# Altium footprint library DRClib.PcbLib: 41 footprints (part 3 of 3)
Each footprint in its own frame and in the unit in brackets; x right, y up, seen from the top. Pads: shape width x height; smd on the part's side, far side on the other; paste and mask are expansions set on the pad; w line width, h text height; cw(c..) or ccw(c..) is an arc to the next point about the centre after c.
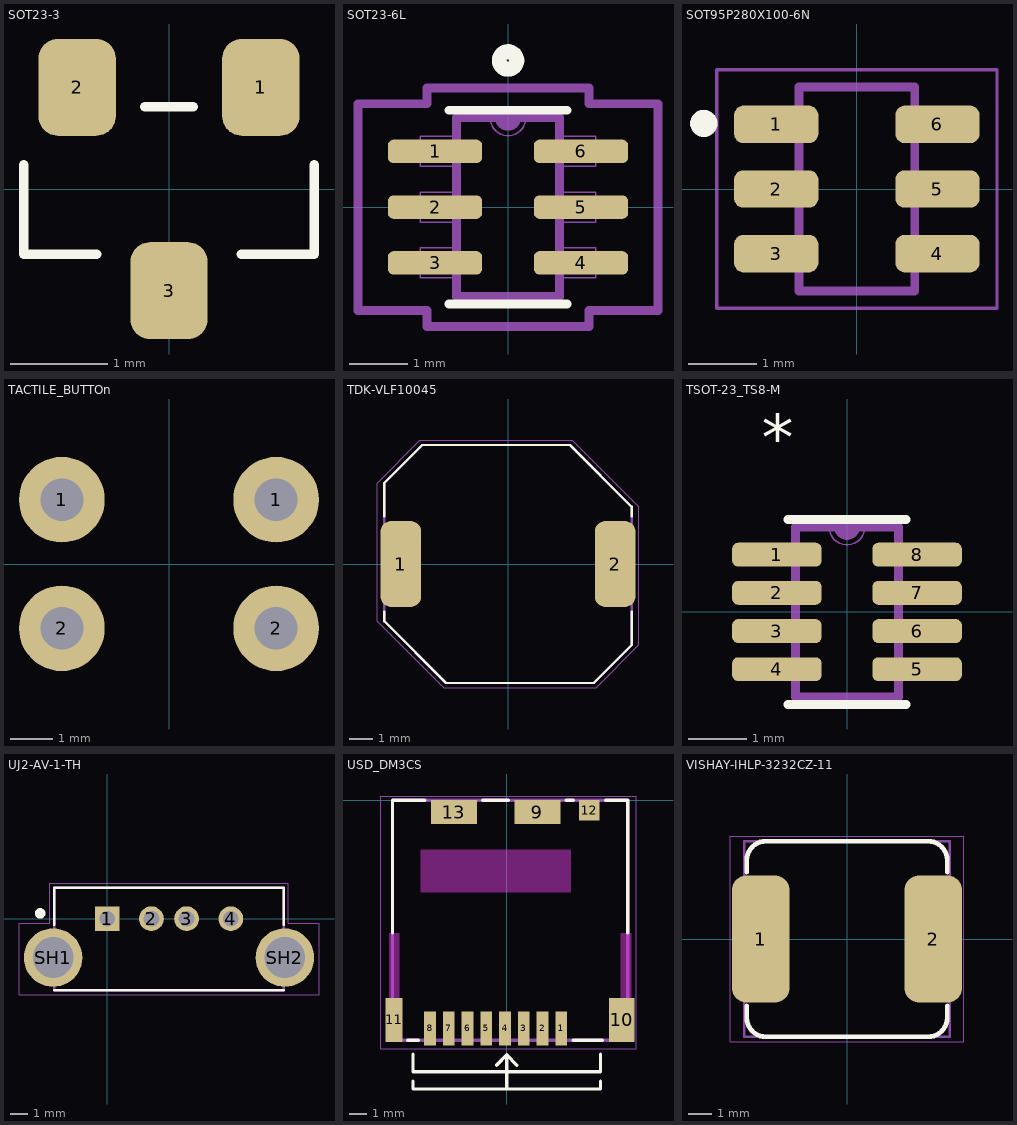
[diagram p2: the footprints below, top view; thin cyan lines are the x and y axes]

## SOT23-3 [mm] "SOT23-3"
height 1.1
pads (3):
  rrect50% 0.8x1 smd: 1(0.95,1.05) 2(-0.95,1.05) 3(0,-1.05)
Top Overlay:
  lines w0.1: -1.5,0.25 -1.5,-0.675 -0.75,-0.675 ; -0.25,0.85 0.25,0.85 ; 0.75,-0.675 1.5,-0.675 1.5,0.25
3D body "SOT23-3.step": height 1.3, standoff 0, extent -1.45,-1.4 1.45,1.4

## SOT23-6L [mm]
pads (6):
  rrect50% 1.61x0.4 smd: 1(-1.244,0.95) 2(-1.244,0) 3(-1.244,-0.95) 4(1.244,-0.95) 5(1.244,0) 6(1.244,0.95)
Top Overlay:
  circle w0.254: c0,2.5 r0.15
  lines w0.152: -1.003,-1.651 1.003,-1.651 ; -1.003,1.651 1.003,1.651
Mechanical 1:
  lines w0.025: -0.305,1.524 ccw(c0,1.524) 0.305,1.524 ; -1.499,-1.204 -1.499,-0.696 -0.876,-0.696 -0.876,-1.204 -1.499,-1.204 ; -1.499,-0.254 -1.499,0.254 -0.876,0.254 -0.876,-0.254 -1.499,-0.254 ; -1.499,0.696 -1.499,1.204 -0.876,1.204 -0.876,0.696 -1.499,0.696 ; -0.876,-1.524 0.876,-1.524 0.876,1.524 -0.876,1.524 -0.876,-1.524 ; 0.876,-1.204 0.876,-0.696 1.499,-0.696 1.499,-1.204 0.876,-1.204 ; 0.876,-0.254 0.876,0.254 1.499,0.254 1.499,-0.254 0.876,-0.254 ; 0.876,0.696 0.876,1.204 1.499,1.204 1.499,0.696 0.876,0.696
  text "*" at -0.495,1.448 h0.79
Mechanical 16:
  lines w0.152: -0.146,1.524 ccw(c0,1.524) 0.146,1.524 ; -2.557,-1.762 -2.557,1.762 -1.384,1.762 -1.384,2.032 1.384,2.032 1.384,1.762 2.557,1.762 2.557,-1.762 1.384,-1.762 1.384,-2.032 -1.384,-2.032 -1.384,-1.762 -2.557,-1.762 ; -0.876,-1.524 -0.876,1.524 0.876,1.524 0.876,-1.524 -0.876,-1.524

## SOT95P280X100-6N [mm]
pads (6):
  rrect50% 1.24x0.55 smd: 1(-1.185,0.95) 2(-1.185,0) 3(-1.185,-0.95) 4(1.185,-0.95) 5(1.185,0) 6(1.185,0.95)
Top Overlay:
  circle w0.2: c-2.249,0.964 r0.1
Mechanical 4:
  lines w0.127: -0.85,-1.5 -0.85,1.5 ; -0.85,-1.5 0.85,-1.5 ; -0.85,-1.5 -0.85,1.5 ; -0.85,-1.5 0.85,-1.5 ; -0.85,1.5 0.85,1.5 ; -0.85,1.5 0.85,1.5 ; 0.85,-1.5 0.85,1.5 ; 0.85,-1.5 0.85,1.5
Mechanical 16:
  lines w0.05: -2.06,-1.75 2.06,-1.75 2.06,1.75 -2.06,1.75 -2.06,-1.75
3D body: height 1, standoff 0, extent -0.85,-1.5 0.85,1.5

## TACTILE_BUTTOn [mm]
pads (4):
  round 2 hole 1: 1(-2.5,1.5) 1(2.5,1.5) 2(-2.5,-1.5) 2(2.5,-1.5)
3D body "Tactile.stp": height 3.5, standoff 0, extent -2.25,-2.25 2.25,2.25

## TDK-VLF10045 [mm]
pads (2):
  rrect50% 1.7x3.6 smd: 1(-4.5,0) 2(4.5,0)
Top Overlay:
  lines w0.1: -5.2,-2 -5.2,-2.4 -2.6,-5 0,-5 3.6,-5 5.2,-3.4 5.2,-2 ; -5.2,2 -5.2,3.4 -3.6,5 0,5 2.6,5 5.2,2.4 5.2,2
Mechanical 13:
  region: 5.2,1.5 3.9,1.5 3.9,-1.5 5.2,-1.5
  rectangle: -5.2,-1.5 -3.9,1.5
  lines w0.1: -5.2,-2.4 -5.2,3.4 -3.6,5 2.6,5 5.2,2.4 5.2,-3.4 3.6,-5 -2.6,-5 -5.2,-2.4
Mechanical 15:
  lines w0.05: -5.5,-2.4 -5.5,3.4 -3.7,5.2 2.7,5.2 5.5,2.4 5.5,-3.4 3.7,-5.2 -2.7,-5.2 -5.5,-2.4
  text ".Designator" at -4.3,-0.4 h2
3D body "User Library-SMD Inductor TDK VLF10045T.step": height 4.7, standoff 0, extent -5.2,-5.1 5.2,5

## TSOT-23_TS8-M [mil]
pads (8):
  rrect50% 60x16 smd: 1(-47,38.39) 2(-47,12.8) 3(-47,-12.8) 4(-47,-38.39) 5(47,-38.39) 6(47,-12.8) 7(47,12.8) 8(47,38.39)
Top Overlay:
  lines w6: -39.5,-62 39.5,-62 ; -39.5,62 39.5,62
  text "*" at -57,101.39 h31.25
Mechanical 1:
  lines w1: -12,57 ccw(c0,57) 12,57 ; -55,-45.39 -34.5,-45.39 -34.5,-31.39 -55,-31.39 -55,-45.39 ; -55,-19.8 -34.5,-19.8 -34.5,-5.8 -55,-5.8 -55,-19.8 ; -55,5.8 -34.5,5.8 -34.5,19.8 -55,19.8 -55,5.8 ; -55,31.39 -34.5,31.39 -34.5,45.39 -55,45.39 -55,31.39 ; -34.5,-57 -34.5,57 34.5,57 34.5,-57 -34.5,-57 ; 34.5,-45.39 55,-45.39 55,-31.39 34.5,-31.39 34.5,-45.39 ; 34.5,-19.8 55,-19.8 55,-5.8 34.5,-5.8 34.5,-19.8 ; 34.5,5.8 55,5.8 55,19.8 34.5,19.8 34.5,5.8 ; 34.5,31.39 55,31.39 55,45.39 34.5,45.39 34.5,31.39
  text "*" at -19.5,54 h31.25
Mechanical 16:
  lines w6: -5.75,57 ccw(c0,57) 5.75,57 ; -34.5,-57 34.5,-57 34.5,57 -34.5,57 -34.5,-57

## UJ2-AV-1-TH [mm]
pads (6):
  rect 1.408x1.408 hole 0.9: 1(0,0)
  round 1.408 hole 0.9: 2(2.5,0) 3(4.5,0) 4(7,0)
  round 3.316 hole 2.3: SH1(-3.07,-2.2) SH2(10.07,-2.2)
Top Overlay:
  circle w0.3: c-3.8,0.3 r0.15
  lines w0.127: -3,-4.05 10,-4.05 ; -3,-0.35 -3,1.75 10,1.75 10,-0.35
Mechanical 4:
  circle w0.3: c0,0.05 r0.15
  circle w0.3: c0,0.05 r0.15
  lines w0.127: -3,-4.05 -3,1.75 ; -3,-4.05 10,-4.05 ; -3,-4.05 -3,1.75 ; -3,-4.05 10,-4.05 ; -3,1.75 10,1.75 ; -3,1.75 10,1.75 ; 10,-4.05 10,1.75 ; 10,-4.05 10,1.75
Mechanical 16:
  lines w0.05: -5,-4.3 -5,-0.25 -3.25,-0.25 -3.25,2 10.25,2 10.25,-0.25 12,-0.25 12,-4.3 -5,-4.3

## USD_DM3CS [mm]
pads (13):
  rect 0.7x2 smd: 1(3.2,-13.4) 2(2.1,-13.4) 3(1,-13.4) 4(-0.1,-13.4) 5(-1.2,-13.4) 6(-2.3,-13.4) 7(-3.4,-13.4) 8(-4.5,-13.4)
  rect 2.7x1.4 smd: 9(1.8,-0.7) 13(-3.1,-0.7)
  rect 1.5x2.6 smd: 10(6.75,-12.9)
  rect 1x2.6 smd: 11(-6.6,-12.9)
  rect 1.2x1.2 smd: 12(4.85,-0.6)
Top Layer keep-out:
  region: 3.75,-5.4 -5.05,-5.4 -5.05,-2.9 3.75,-2.9
  region: 6.7,-11.6 6.7,-7.8 7.3,-7.8 7.3,-11.6
  region: -6.9,-11.6 -6.9,-7.8 -6.3,-7.8 -6.3,-11.6
Top Overlay:
  lines w0.2: -6.7,-7.8 -6.7,0 -4.8,0 ; -5.8,-14.1 -5.2,-14.1 ; -5.5,-16.5 -5.5,-16.95 5.5,-16.95 5.5,-16.5 ; -5.5,-14.9 -5.5,-15.95 5.5,-15.95 5.5,-14.9 ; -1.4,0 0.1,0 ; -0.6,-15.55 0,-14.95 ; 0,-16.95 0,-14.95 ; 0.6,-15.55 0,-14.95 ; 3.5,0 3.9,0 ; 3.9,-14.1 5.6,-14.1 ; 5.8,0 7.1,0 7.1,-7.8
Mechanical 15:
  lines w0.05: -7.4,-14.6 7.6,-14.6 7.6,0.239 -7.4,0.239 -7.4,-14.6
  text ".Designator" at 0,-10.3 h1.5
Mechanical 16:
  lines w0.2: -6.7,-14.1 7.1,-14.1 7.1,0 -6.7,0 -6.7,-14.1
3D body "DM3CS-SF.stp": height 1.98, standoff 0.05, extent -6.7,-14.1 7.1,0

## VISHAY-IHLP-3232CZ-11 [mil]
pads (2):
  rrect50% 95x210 smd mask+0: 1(-142.5,0) 2(142.5,0)
Top Overlay:
  lines w7.87: -165.35,-110.24 -165.35,-129.92 ccw(c-133.86,-129.92) -133.86,-161.42 0,-161.42 133.86,-161.42 ccw(c133.86,-129.92) 165.35,-129.92 165.35,-110.24 ; -165.35,110.24 -165.35,129.92 cw(c-133.86,129.92) -133.86,161.42 0,161.42 133.86,161.42 cw(c133.86,129.92) 165.35,129.92 165.35,110.24
Mechanical 13:
  region: -115,-100 -115,100 -169,100 -169,-100
  region: 115,100 115,-100 169,-100 169,100
  lines w3.94: -169.29,-161.3 169.32,-161.3 169.32,161.3 -169.29,161.3 -169.29,-161.3
Mechanical 15:
  lines w1.97: -192.91,-169.29 -192.91,169.29 192.91,169.29 192.91,-169.29 -192.91,-169.29
  text ".Designator" at -169.29,-15.75 h78.74
3D body "IHLP3232CZ.STEP": height 113.5, standoff 0, extent -169.29,-161.3 169.32,161.3